# Altium footprint library Molex_2082940030.PcbLib: 1 footprints
Each footprint in its own frame and in the unit in brackets; x right, y up, seen from the top. Pads: shape width x height; smd on the part's side, far side on the other; paste and mask are expansions set on the pad; w line width, h text height; cw(c..) or ccw(c..) is an arc to the next point about the centre after c.
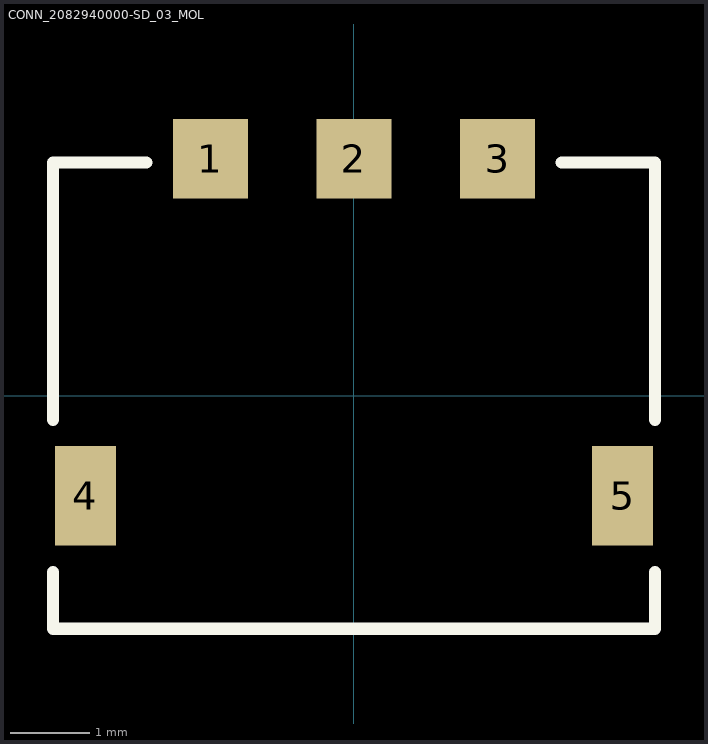
[diagram p0: the footprint, top view; thin cyan lines are the x and y axes]

## CONN_2082940000-SD_03_MOL [mil]
pads (5):
  rect 37x39 smd paste+0 mask+0: 1(-70.87,116.89) 2(0,116.89) 3(70.87,116.89)
  rect 30x49 smd paste+0 mask+0: 4(-132.48,-49.45) 5(132.48,-49.45)
Top Overlay:
  lines w6: -148.5,-87.01 -148.5,-115 148.5,-115 148.5,-87.01 ; -148.5,-11.89 -148.5,115 -102.47,115 ; 102.47,115 148.5,115 148.5,-11.89
3D body "2082940030.stp": height 61.02, standoff -1.97, extent -147.4,-107.2 140,117.2